# Altium footprint library diode.PcbLib: 63 footprints (part 4 of 4)
Each footprint in its own frame and in the unit in brackets; x right, y up, seen from the top. Pads: shape width x height; smd on the part's side, far side on the other; paste and mask are expansions set on the pad; w line width, h text height; cw(c..) or ccw(c..) is an arc to the next point about the centre after c.
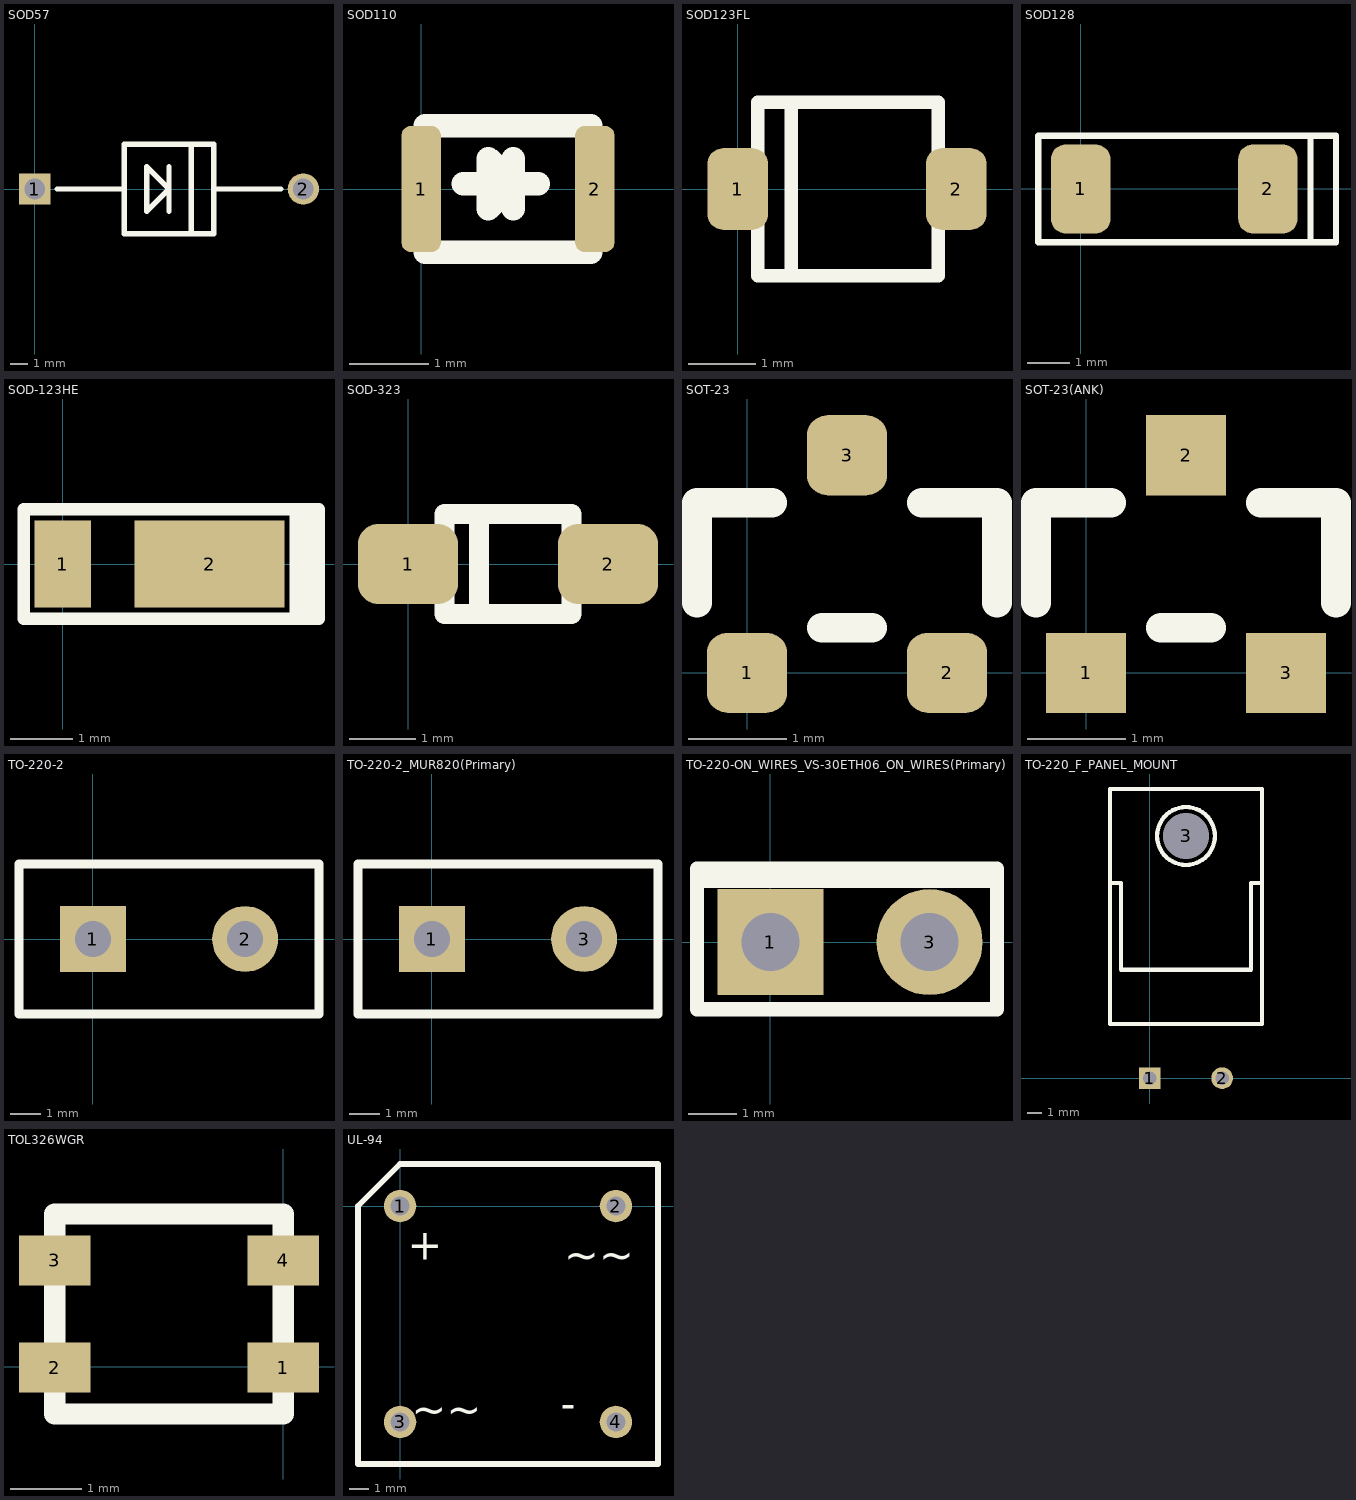
[diagram p3: the footprints below, top view; thin cyan lines are the x and y axes]

## SOD57 [mil]
pads (2):
  rect 70x70 hole 46: 1(0,0)
  round 70 hole 46: 2(600,0)
Top Overlay:
  lines w11.81: 50,0 200,0 ; 300,-50 300,50 ; 350,-100 350,100 ; 400,0 550,0 ; 200,-100 400,-100 400,100 200,100 200,-100 ; 250,-50 300,0 250,50 250,-50

## SOD80C [mm]
height 1.6

## SOD110 [mm]
pads (2):
  rrect50% 0.5x1.6 smd: 1(0,0) 2(2.2,0)
Top Overlay:
  lines w0.3: 0.534,0.068 0.851,0.068 ; 1.168,-0.249 1.168,0.385 ; 1.485,0.068 1.168,0.068 ; 1.168,0.068 0.851,0.385 0.851,-0.249 1.168,0.068 ; 0.05,-0.8 0.05,0.8 2.15,0.8 2.15,-0.8 0.05,-0.8

## SOD123FL [mm]
pads (2):
  rrect50% 0.91x1.22 smd: 1(0,0) 2(3.27,0)
Top Overlay:
  lines w0.2: 0.8,-1.3 0.8,1.3 ; 0.3,-1.3 3,-1.3 3,1.3 0.3,1.3 0.3,-1.3

## SOD128 [mm]
pads (2):
  rrect50% 1.4x2.1 smd: 1(0,0) 2(4.4,0)
Top Overlay:
  lines w0.15: 5.4,-1.25 6,-1.25 6,1.25 5.4,1.25 ; 5.4,-1.25 -1,-1.25 -1,1.25 5.4,1.25 ; 5.4,-1.25 5.4,1.25

## SOD-123HE [mm]
pads (2):
  rect 0.9x1.4 smd: 1(0,0)
  rect 2.4x1.4 smd: 2(2.35,0)
Top Overlay:
  lines w0.2: 3.7,0.875 4.1,0.875 4.1,-0.875 3.825,-0.875 ; 3.925,0.875 3.925,-0.875 3.725,-0.875 ; 3.725,-0.875 3.725,0.875 -0.625,0.875 -0.625,-0.875 3.725,-0.875
3D body "SOD123HE.STEP": height 0.82, standoff 0.02, extent -0.2,-0.8 3.3,0.8

## SOD-323 [mm]
pads (2):
  rrect50% 1.5x1.2 smd: 1(0,0) 2(3,0)
Top Overlay:
  lines w0.3: 1.065,-0.635 1.065,0.635 ; 0.55,-0.75 2.45,-0.75 2.45,0.75 0.55,0.75 0.55,-0.75

## SOT-23 [mil]
pads (3):
  rrect50% 32x32 smd: 1(0,0) 2(80,0) 3(40,87)
Top Overlay:
  lines w11.81: -20,28 -20,68 10,68 ; 30,18 50,18 ; 70,68 100,68 100,28
3D body "User Library-3-lead sot23-3.step": height 39.37, standoff -0.79, extent -17.12,-5.9 97.84,91.58

## SOT-23(ANK) [mil]
pads (3):
  rect 32x32 smd: 1(0,0) 2(40,87) 3(80,0)
Top Overlay:
  lines w11.81: -20,28 -20,68 10,68 ; 30,18 50,18 ; 70,68 100,68 100,28

## TO-220-2 [mm]
pads (2):
  rect 2.2x2.2 hole 1.2: 1(0,0)
  round 2.2 hole 1.2: 2(5.08,0)
Top Overlay:
  lines w0.3: -2.46,-2.5 7.54,-2.5 7.54,2.5 -2.46,2.5 -2.46,-2.5

## TO-220-2_MUR820(Primary) [mm]
pads (2):
  rect 2.2x2.2 hole 1.2: 1(0,0)
  round 2.2 hole 1.2: 3(5.08,0)
Top Overlay:
  lines w0.3: -2.46,-2.5 -2.46,2.5 7.54,2.5 7.54,-2.5 -2.46,-2.5

## TO-220-ON_WIRES_VS-30ETH06_ON_WIRES(Primary) [mm]
pads (2):
  rect 2.2x2.2 hole 1.2: 1(0,0)
  round 2.2 hole 1.2: 3(3.302,0)
Top Overlay:
  lines w0.3: -1.524,1.27 4.699,1.27 ; -1.524,1.397 4.699,1.397 ; -1.524,-1.397 -1.524,1.524 4.699,1.524 4.699,-1.397 -1.524,-1.397

## TO-220_F_PANEL_MOUNT [mil]
pads (3):
  rect 60x60 hole 38: 1(0,0)
  round 60 hole 38: 2(200,0)
  round 125.98 hole 125.98: 3(100,670)
Top Overlay:
  circle w11.81: c100,670 r80
  lines w11.81: -110,540 -80,540 -80,300 280,300 280,540 310,540 ; -110,150 -110,800 310,800 310,150 -110,150
3D body "User Library-TO220-2pin bent.STEP": height 177.17, standoff -100.99, extent -94.49,-12.8 299.21,798.23

## TOL326WGR [mm]
pads (4):
  rect 1x0.7 smd: 1(0,-0.01) 2(-3.2,-0.01) 3(-3.2,1.49) 4(0,1.49)
Top Overlay:
  lines w0.3: -3.2,-0.66 -3.2,2.14 0,2.14 0,-0.66 -3.2,-0.66

## UL-94 [mm]
pads (4):
  round 1.7 hole 1: 1(0,0) 2(11.3,0) 3(0,-11.3) 4(11.3,-11.3)
Top Overlay:
  lines w0.3: -2.2,-13.5 13.5,-13.5 13.5,2.2 0,2.2 -2.2,0 -2.2,-13.5
  text "~~" at 8.6,-3.3 h1.59
  text "+" at 0.4,-2.8 h1.59
  text "-" at 8.4,-11.1 h1.59
  text "~~" at 0.6,-11.4 h1.59